# EAGLE library part TLP3546A (library optocoupler)
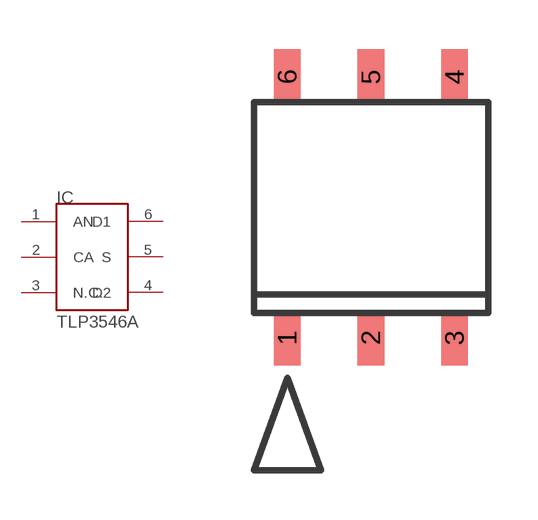
[diagram p0: symbol with the pads of SMD-6; footprint SMD-6]

Designator prefix IC

## TLP3546A (PACKAGE: 11-7A801S, 11-7A805S; VARIANT: LF1, TP1, LF5, TP5)  [SMD-6]
1  AN
2  CA
3  N.C.
4  D2
5  S
6  D1

## Footprint SMD-6 (pad centres in mm)
smd 0.813 x 1.676: 1 -6.1,-7.162; 2 -3.56,-7.162; 3 -1.02,-7.162; 4 -1.02,0.762; 5 -3.56,0.762; 6 -6.1,0.762